# Altium footprint library DF13A-4P-1.25H(51).PcbLib: 1 footprints
Each footprint in its own frame and in the unit in brackets; x right, y up, seen from the top. Pads: shape width x height; smd on the part's side, far side on the other; paste and mask are expansions set on the pad; w line width, h text height; cw(c..) or ccw(c..) is an arc to the next point about the centre after c.
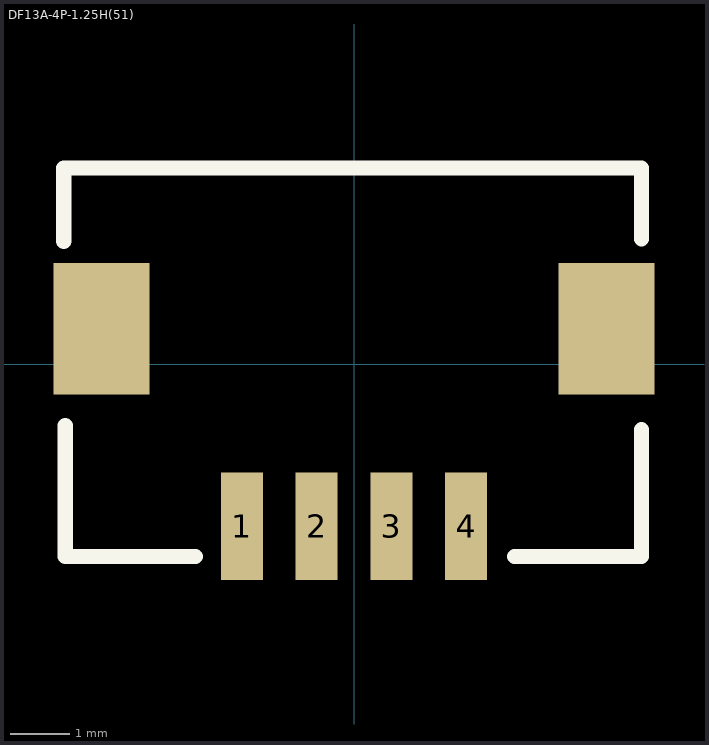
[diagram p0: the footprint, top view; thin cyan lines are the x and y axes]

## DF13A-4P-1.25H(51) [mm] "4 pos, 1.25mm pitch DF13 connector (H125779CT-ND)"
height 3.6
pads (6):
  rect 0.7x1.8 smd: 1(-1.879,-2.706) 2(-0.629,-2.706) 3(0.621,-2.706) 4(1.871,-2.706)
  rect 1.6x2.2 smd: ""(-4.229,0.594) ""(4.221,0.594)
Top Overlay:
  lines w0.254: -4.861,2.063 -4.861,3.286 4.81,3.286 4.81,2.101 ; -4.835,-1.023 -4.835,-3.214 -2.657,-3.214 ; 2.683,-3.214 4.81,-3.214 4.81,-1.087
3D body "DF13A-4P-1.25H.stp": height 3.58, standoff -0.02, extent -4.86,-3.211 4.79,3.289
3D body "DF13-4S-1.25C.stp": height 3.46, standoff 0.26, extent -3.325,0 3.325,4